# EAGLE library part MCP602-E_SN (library MCP602-E_SN)
Microchip MCP602-E/SN, Dual Op Amp, 2.8MHz Rail-Rail, 2.7 6 V, 8-Pin SOIC Source: Datasheet <https://www.mouser.in/datasheet/2/268/21314g-2449592.pdf>
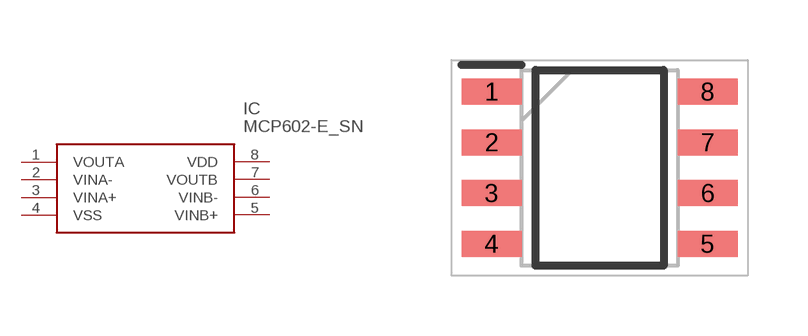
[diagram p0: symbol with the pads of SOIC127P600X175-8N; footprint SOIC127P600X175-8N]

Designator prefix IC

## MCP602-E_SN (Description: Microchip MCP602-E/SN, Dual Op Amp, 2.8MHz Rail-Rail, 2.7 6 V, 8-Pin SOIC; Height: 1.75mm; Manufacturer_Name: Microchip; Manufacturer_Part_Number: MCP602-E/SN; Mouser_Part_Number: 579-MCP602-E/SN; Mouser_Price-Stock: https://www.mouser.co.uk/ProductDetail/Microchip-Technology/MCP602-E-SN?qs=iRhCjdSJZe6hCMMETMefXQ%3D%3D)  [SOIC127P600X175-8N]
1  VOUTA
2  VINA-
3  VINA+
4  VSS
5  VINB+
6  VINB-
7  VOUTB
8  VDD

## Footprint SOIC127P600X175-8N (pad centres in mm)
8-LEAD-SOIC (SN)-1
smd 1.5 x 0.65: 1 -2.7,1.905; 2 -2.7,0.635; 3 -2.7,-0.635; 4 -2.7,-1.905; 5 2.7,-1.905; 6 2.7,-0.635; 7 2.7,0.635; 8 2.7,1.905